# Altium schematic symbol library FTS-140.SchLib: 1 symbol
Pins are listed as number, name and electrical type; pins without a type are passive.

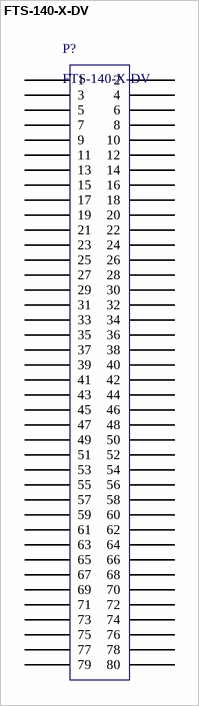
[diagram p0: symbol FTS-140-X-DV]

## FTS-140-X-DV
designator P?
1.27 mm Micro Low Profile Terminal Strip, 40 Pins per Rows, Double Row Vertical, SMD; Manufacturer: Samtec; Part: FTS-140-01-L-DV-A; Pitch: 1.27 mm
footprint FTS-140-01-L-DV-A (1.27 mm Micro Low Profile Terminal Strip)
footprint FTS-140-01-L-DV-A_NO_PASTE (1.27 mm Micro Low Profile Terminal Strip, without solder paste expansion)
pins: 1, 2, 3, 4, 5, 6, 7, 8, 9, 10, 11, 12, 13, 14, 15, 16, 17, 18, 19, 20, 21, 22, 23, 24, 25, 26, 27, 28, 29, 30, 31, 32, 33, 34, 35, 36, 37, 38, 39, 40, 41, 42, 43, 44, 45, 46, 47, 48, 49, 50, 51, 52, 53, 54, 55, 56, 57, 58, 59, 60, 61, 62, 63, 64, 65, 66, 67, 68, 69, 70, 71, 72, 73, 74, 75, 76, 77, 78, 79, 80